# EAGLE library part TEN60-S24-RA (library Connectors)
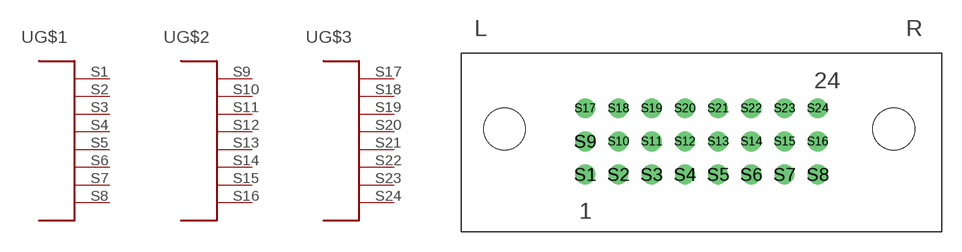
[diagram p5: symbol with the pads of TEN60-S24-RA; footprint TEN60-S24-RA]

Designator prefix -; gates G$1=TEN60-8-SIG G$2=TEN60-8-SIG G$3=TEN60-8-SIG

## TEN60-S24-RA  [TEN60-S24-RA]
S1  G$1:P$1
S2  G$1:P$2
S3  G$1:P$3
S4  G$1:P$4
S5  G$1:P$5
S6  G$1:P$6
S7  G$1:P$7
S8  G$1:P$8
S9  G$2:P$1
S10  G$2:P$2
S11  G$2:P$3
S12  G$2:P$4
S13  G$2:P$5
S14  G$2:P$6
S15  G$2:P$7
S16  G$2:P$8
S17  G$3:P$1
S18  G$3:P$2
S19  G$3:P$3
S20  G$3:P$4
S21  G$3:P$5
S22  G$3:P$6
S23  G$3:P$7
S24  G$3:P$8

## Footprint TEN60-S24-RA (pad centres in mm)
drill 1: S1 9.49,4.4; S2 12.03,4.4; S3 14.57,4.4; S4 17.11,4.4; S5 19.65,4.4; S6 22.19,4.4; S7 24.73,4.4; S8 27.27,4.4; S9 9.49,6.94; S10 12.03,6.94; S11 14.57,6.94; S12 17.11,6.94; S13 19.65,6.94; S14 22.19,6.94; S15 24.73,6.94; S16 27.27,6.94; S17 9.49,9.48; S18 12.03,9.48; S19 14.57,9.48; S20 17.11,9.48; S21 19.65,9.48; S22 22.19,9.48; S23 24.73,9.48; S24 27.27,9.48
hole 3.2 at 3.32,7.9
hole 3.2 at 33.08,7.9